# Altium schematic symbol library MT0.0LIB.SchLib: 9 symbols
Pins are listed as number, name and electrical type; pins without a type are passive.

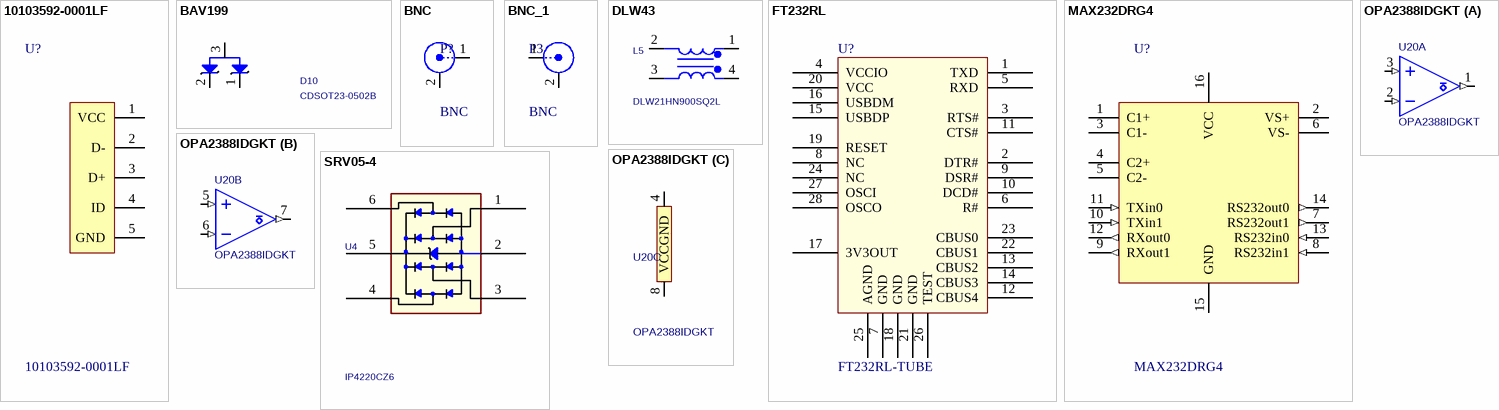
[diagram p0: symbols 10103592-0001LF to SRV05-4]

## 10103592-0001LF
designator U?
USB Connectors 5P Quick Connect Micro USB TypeB Plug; MFG: Amphenol FCI; FP_DESC: Micro USB Type B Connectors; MFG_PN: 10103592-0001LF
pins: 1 VCC, 2 D-, 3 D+, 4 ID, 5 GND

## BAV199
designator D10, comment CDSOT23-0502B
9V Clamp 8.5A (8/20µs) Ipp Tvs Diode Surface Mount SOT-23-3L; FP_DESC: SOT23-3; MFG: Bourns Inc.; MFG_PN: CDSOT23-0502B; Footprint Checked: Ok
pins: 1, 2, 3

## BNC
designator P?
BNC Elbow Connector; MFG: Molex; MFG_PN: 73100-0154
pins: 1 X, 2 Y

## BNC_1
designator P3, comment BNC
BNC Elbow Connector; LatestRevisionDate: 17-Jul-2002; LatestRevisionNote: Re-released for DXP Platform.; Publisher: Altium Limited
footprint 73100-0154 (RF Connectors / Coaxial Connectors 50 OHMS BNC PCB CONN 0 OHMS BNC PCB CONN.  RoHS Compliant By Exemption)
pins: 1 X, 2 Y

## DLW43
designator L5, comment DLW21HN900SQ2L
Ferrite bead; Tolerance: 25%; MFG: MURATA; FP_DESC: L0805x2; Symbol Checked: Ok; Value: 90R; MFG_PN: DLW21HN900SQ2L; Footprint Checked: Assign Ok, Footprint Ok
footprint ind4_choke_0805
pins: 1, 2, 3, 4

## FT232RL
designator U?, comment FT232RL-TUBE
USB Bridge, USB to UART USB 2.0 UART Interface 28-SSOP; MFG: FTDI, Future Technology Devices International Ltd; FP_DESC: 28-SSOP (0.209", 5.30mm Width); MFG_PN: FT232RL-TUBE
footprint SSOP-28
pins: 1 TXD, 2 DTR#, 3 RTS#, 4 VCCIO, 5 RXD, 6 R#, 7 GND, 8 NC, 9 DSR#, 10 DCD#, 11 CTS#, 12 CBUS4, 13 CBUS2, 14 CBUS3, 15 USBDP, 16 USBDM, 17 3V3OUT, 18 GND, 19 RESET, 20 VCC, 21 GND, 22 CBUS1, 23 CBUS0, 24 NC, 25 AGND, 26 TEST, 27 OSCI, 28 OSCO

## MAX232DRG4
designator U?
Interfaz IC RS-232 Dual EIA-232 Driver/ Receiver; MFG: Texas Instruments; FP_DESC: SOP-16; MFG_PN: MAX232DRG4
pins: 1 C1+, 2 VS+, 3 C1-, 4 C2+, 5 C2-, 6 VS-, 7 RS232out1 (out), 8 RS232in1 (in), 9 RXout1 (out), 10 TXin1 (in), 11 TXin0 (in), 12 RXout0 (out), 13 RS232in0 (in), 14 RS232out0 (out), 15 GND, 16 VCC

## OPA2388IDGKT
designator U20
Operational Amplifiers - Op Amps 10MHz, CMOS, Zero-Drift, Zero-Crossover, True RRIO Precision Operational Amplifier 8-VSSOP -40 to 125; MFG: TI; MFG_PN: OPA2388IDGKT
part A pins: 1 OUT1 (out), 2 IN1- (in), 3 IN1+ (in)
part B pins: 5 IN2+ (in), 6 IN2- (in), 7 OUT2 (out)
part C pins: 4 GND (power), 8 VCC (power)

## SRV05-4
designator U4, comment IP4220CZ6
TVS; MFG: NXP; FP_DESC: SOT23-6; Symbol Checked: Ok; MFG_PN: IP4220CZ6; Footprint Checked: Assign Ok, Footprint Ok
footprint SOT95P284X122-6N (SOT23, 6-Leads)
pins: 1 I/O1, 2 GND, 3 I/O3, 4 I/O4, 5 VCC, 6 I/O6